# EAGLE library part B9B-PH-K (library con-jst-ph)
HEADER
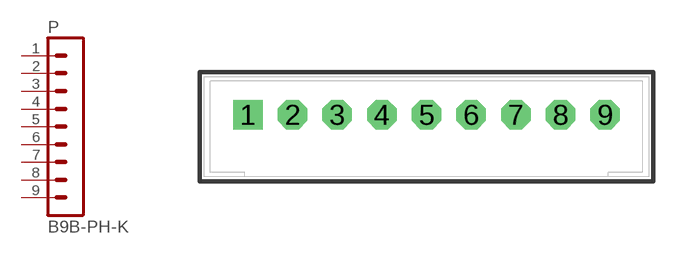
[diagram p3: symbol with the pads of B9B-PH-K; footprint B9B-PH-K]

Designator prefix P

## B9B-PH-K  [B9B-PH-K]
1  1  pas
2  2  pas
3  3  pas
4  4  pas
5  5  pas
6  6  pas
7  7  pas
8  8  pas
9  9  pas

## Footprint B9B-PH-K (pad centres in mm)
HEADER
drill 0.813 square: 1 -8,0
drill 0.813 octagon: 2 -6,0; 3 -4,0; 4 -2,0; 5 0,0; 6 2,0; 7 4,0; 8 6,0; 9 8,0